# EAGLE library part 74LVX3245MTC (library Fairchild_By_element14_Batch_1)
8-Bit Dual supply Translating Transreceiver
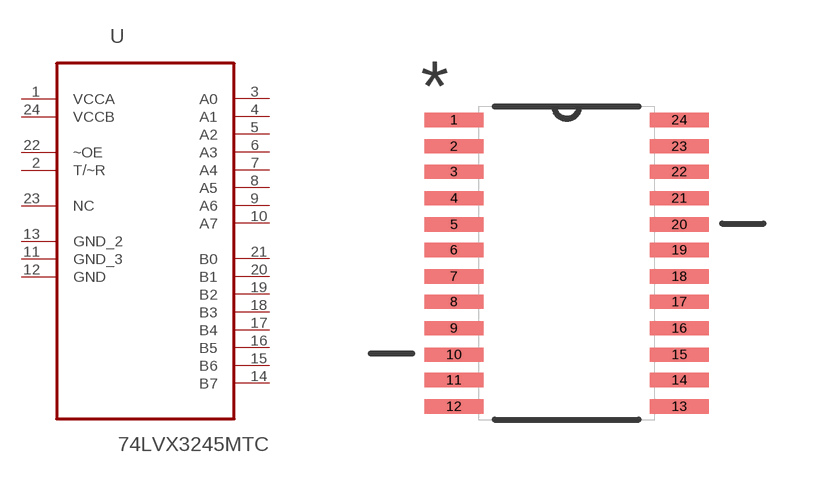
[diagram p113: symbol with the pads of SOP65P640X110-24N; footprint SOP65P640X110-24N]

Designator prefix U

## 74LVX3245MTC (MPN: 74LVX3245MTC; OC_FARNELL: 1417669; OC_NEWARK: 78K6349; PACKAGE: TVSOP-24; SUPPLIER: FAIRCHILD SEMICONDUCTOR)  [SOP65P640X110-24N]
1  VCCA  pwr
2  T/~R  in
3  A0  out
4  A1  out
5  A2  out
6  A3  out
7  A4  out
8  A5  out
9  A6  out
10  A7  out
11  GND_3  pas
12  GND  pas
13  GND_2  pas
14  B7  out
15  B6  out
16  B5  out
17  B4  out
18  B3  out
19  B2  out
20  B1  out
21  B0  out
22  ~OE  in
23  NC  nc
24  VCCB  pwr

## Footprint SOP65P640X110-24N (pad centres in mm)
smd 1.473 x 0.356: 1 -2.819,3.581; 2 -2.819,2.921; 3 -2.819,2.286; 4 -2.819,1.626; 5 -2.819,0.965; 6 -2.819,0.33; 7 -2.819,-0.33; 8 -2.819,-0.965; 9 -2.819,-1.626; 10 -2.819,-2.286; 11 -2.819,-2.921; 12 -2.819,-3.581; 13 2.819,-3.581; 14 2.819,-2.921; 15 2.819,-2.286; 16 2.819,-1.626; 17 2.819,-0.965; 18 2.819,-0.33; 19 2.819,0.33; 20 2.819,0.965; 21 2.819,1.626; 22 2.819,2.286; 23 2.819,2.921; 24 2.819,3.581